# Altium schematic symbol library SPDT_C&K_KSC421J70SHLFSPF_50mA.SchLib: 1 symbol
Pins are listed as number, name and electrical type; pins without a type are passive.

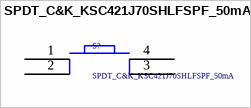
[diagram p0: symbol SPDT_C&K_KSC421J70SHLFSPF_50mA]

## SPDT_C&K_KSC421J70SHLFSPF_50mA
designator S?
Tactile Switches Tact 6.2 x 6.2, 5.1 mm H, 1.7N, J leads, Potting Friendly, IP67; Supplier 1: Mouser; Supplier Part Number 1: 611-KSC421J70SHLFSPF
footprint SPDT_C&K_KSC421J70SHLFSPF_50mA
pins: 1, 2, 3, 4